# EAGLE library part HEADER-18P (library Connector-new)
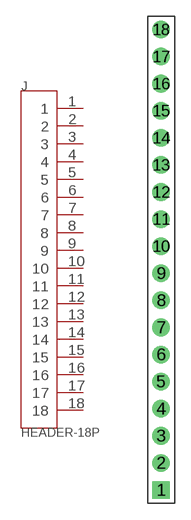
[diagram p2: symbol with the pads of H18-2.54; footprint H18-2.54]

Designator prefix J

## HEADER-18P  [H18-2.54]
1  1
2  2
3  3
4  4
5  5
6  6
7  7
8  8
9  9
10  10
11  11
12  12
13  13
14  14
15  15
16  16
17  17
18  18

## Footprint H18-2.54 (pad centres in mm)
drill 0.889 pad 1.651 square: 1 0,-21.59
drill 0.889 pad 1.651: 2 0,-19.05; 3 0,-16.51; 4 0,-13.97; 5 0,-11.43; 6 0,-8.89; 7 0,-6.35; 8 0,-3.81; 9 0,-1.27; 10 0,1.27; 11 0,3.81; 12 0,6.35; 13 0,8.89; 14 0,11.43; 15 0,13.97; 16 0,16.51; 17 0,19.05; 18 0,21.59